# Altium footprint library ArduinoV1Pcb.PcbLib: 27 footprints (part 1 of 2)
Each footprint in its own frame and in the unit in brackets; x right, y up, seen from the top. Pads: shape width x height; smd on the part's side, far side on the other; paste and mask are expansions set on the pad; w line width, h text height; cw(c..) or ccw(c..) is an arc to the next point about the centre after c.
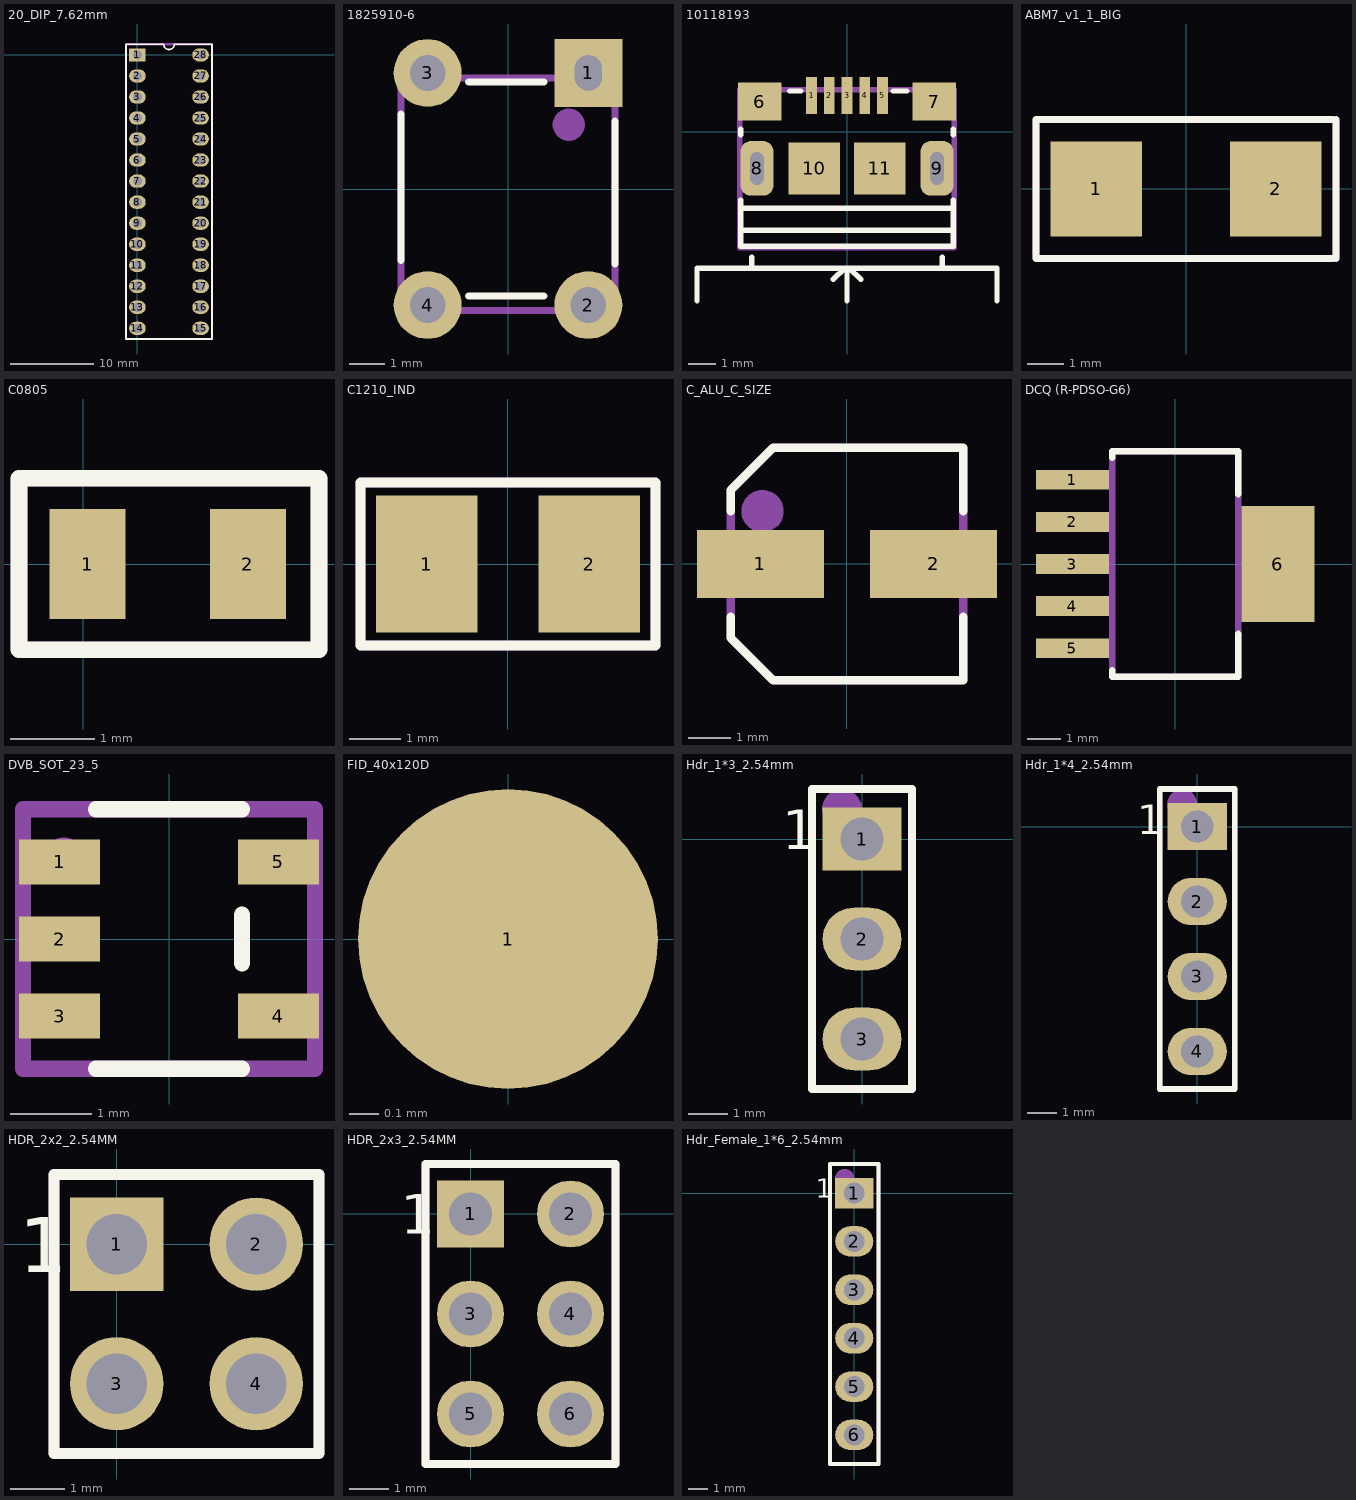
[diagram p0: the footprints below, top view; thin cyan lines are the x and y axes]

## 20_DIP_7.62mm [mm]
pads (28):
  rect 2x1.6 hole 1.1: 1(0,0)
  oval 2x1.6 hole 1.1: 2(0,-2.54) 3(0,-5.08) 4(0,-7.62) 5(0,-10.16) 6(0,-12.7) 7(0,-15.24) 8(0,-17.78) 9(0,-20.32) 10(0,-22.86) 11(0,-25.4) 12(0,-27.94) 13(0,-30.48) 14(0,-33.02) 15(7.62,-33.02) 16(7.62,-30.48) 17(7.62,-27.94) 18(7.62,-25.4) 19(7.62,-22.86) 20(7.62,-20.32) 21(7.62,-17.78) 22(7.62,-15.24) 23(7.62,-12.7) 24(7.62,-10.16) 25(7.62,-7.62) 26(7.62,-5.08) 27(7.62,-2.54) 28(7.62,0)
Top Overlay:
  lines w0.2: -1.39,-34.31 9.01,-34.31 9.01,1.29 4.445,1.29 cw(c3.81,1.29) 3.175,1.29 -1.39,1.29 -1.39,-34.31
Mechanical 29:
  circle w0.5: c0.01,-0.01 r0.224
  lines w0.254: -1.39,-34.31 9.01,-34.31 9.01,1.29 -1.39,1.29 -1.39,-34.31
  text ".Designator" at 4.61,-23.01 h3
3D body "User Library-28 pin dip-1.step": height 7.55, standoff 1.33, extent -0.127,-34.46 7.747,1.481

## 28_DIP_7.63mm_SOCKET [mm]
3D body "dil_socket.stp": height 4.2, standoff -3.17, extent -1.24,-34.26 8.86,1.24

## 1825910-6 [mm]
pads (4):
  rect 1.9x1.9 hole 1 slot 0.762 at 0 deg: 1(2.25,3.25)
  round 1.9 hole 1: 2(2.25,-3.25) 3(-2.25,3.25) 4(-2.25,-3.25)
Top Overlay:
  lines w0.2: -2.995,-1.999 -2.995,-0.974 -2.995,1.076 -2.995,2.101 ; -1.1,-3 1,-3 ; -1.1,3 1,3 ; 3,-2.1 3,1.9
Mechanical 29:
  circle w0.5: c1.7,1.8 r0.2
  lines w0.2: -3,-3.4 -3,3.2 -2.905,3.105 2.995,3.105 2.995,-3.4 -3,-3.4
  text ".Designator" at -1.7,-0.3 h1.6
3D body "User Library-FSM4JLH(1825910-5).step": height 5, standoff -3.51, extent -2.995,-3.898 2.995,3.9

## 10118193 [mm]
pads (11):
  rect 0.4x1.35 smd mask+0.05: 1(-1.3,1.338) 2(-0.65,1.338) 3(0,1.338) 4(0.65,1.338) 5(1.3,1.338)
  rect 1.6x1.4 smd: 6(-3.2,1.112)
  rect 1.6x1.4 smd mask+0.05: 7(3.2,1.112)
  rrect60% 1.2x2 hole 0.5 slot 1.2 at 90 deg mask+0.05: 8(-3.3,-1.338) 9(3.3,-1.338)
  rect 1.9x1.9 smd mask+0.05: 10(-1.2,-1.338) 11(1.2,-1.338)
Top Overlay:
  lines w0.2: -5.5,-6.2 -5.5,-5 5.5,-5 5.5,-6.2 ; -3.9,-3.6 3.9,-3.6 ; -3.9,-2.8 3.9,-2.8 ; -3.9,-2.5 -3.9,-4.2 3.9,-4.2 3.9,-2.5 ; -3.9,-0.1 -3.9,0.1 ; -3.5,-5 -3.5,-4.6 ; -2.1,1.5 -1.7,1.5 ; 0,-6.2 0,-5 ; 0.5,-5.4 0.1,-5 0,-5 ; 1.7,1.5 2.2,1.5 ; 3.5,-4.9 3.5,-4.6 ; 3.9,-0.1 3.9,0.1 ; -0.1,-5 0,-5 ; -0.1,-5 -0.5,-5.4 -0.1,-5 ; -0.1,-5 0,-5
Mechanical 29:
  lines w0.2: -3.928,-4.246 -3.928,1.538 3.928,1.538 3.928,-4.246 -3.928,-4.246
  text ".Designator" at -1.3,-1.3 h1.5
3D body "10118193-0001lfc.stp": height 2.88, standoff -0.92, extent -3.928,-4.246 3.928,1.538

## ABM7_v1_1_BIG [mm]
pads (2):
  rect 2.5x2.6 smd: 1(-2.45,0) 2(2.45,0)
Top Overlay:
  lines w0.2: 4,-1.9 -4.1,-1.9 -4.1,1.9 4,1.9 ; 4.1,-1.9 4.1,-0.95 4.1,0.95 4.1,1.9
Mechanical 29:
  lines w0.2: -4.1,-1.9 -4.1,-1.9 ; -4.1,-1.9 4.1,-1.9 4.1,1.9 -4.1,1.9 -4.1,-1.9
  text ".Designator" at -0.8,-0.2 h0.6
3D body: height 1.45, standoff 1.4, extent -1.95,-1.5 2.15,1.5
3D body: height 1.4, standoff -1.75, extent -2.9,1.9 -2.9,1.9
3D body: height 1.4, standoff -1.75, extent 2.997,-1.753 2.997,-1.753
3D body "ABM7.STEP": height 1.41, standoff 0.01, extent -2.897,-1.753 3.097,1.753

## C0805 [mm]
pads (2):
  rect 0.9x1.3 smd: 1(0.05,0) 2(1.95,0)
Top Overlay:
  lines w0.2: -0.762,-1.016 -0.762,1.016 2.794,1.016 2.794,-1.016 -0.762,-1.016
Mechanical 29:
  lines w0.2: -0.762,-1.016 -0.762,1.016 2.794,1.016 2.794,-1.016 -0.762,-1.016
  text ".Designator" at 0.05,-0.254 h0.6
3D body "CAPC2013X95N.step": height 0.96, standoff 0.01, extent 0,-0.6 2,0.6
3D body "CAPC2013X95N.step": height 0.96, standoff 0.01, extent 0,-0.6 2,0.6

## C1210_IND [mm]
pads (2):
  rect 2x2.7 smd: 1(-1.6,0) 2(1.6,0)
Top Overlay:
  lines w0.2: -2.9,-1.6 2.9,-1.6 2.9,1.6 -2.9,1.6 -2.9,-1.6
Mechanical 1:
  lines w0.2: -2.9,-1.6 -2.9,1.6 2.9,1.6 2.9,-1.6 -2.9,-1.6
  text ".Designator" at -1.4,-0.9 h1
3D body: height 2.7, standoff 0, extent -1.7,-1.25 -1.4,1.25
3D body: height 2.7, standoff 0, extent 1.35,-1.25 1.65,1.25
3D body: height 2.7, standoff 0, extent -1.4,-1.25 1.35,1.25

## C_ALU_C_SIZE [mm]
pads (2):
  rect 3x1.6 smd: 1(-2.05,0) 2(2.05,0)
Top Overlay:
  lines w0.2: -2.75,-1.25 -2.75,-1.75 -1.75,-2.75 2.75,-2.75 2.75,-1.25 ; -2.75,1.25 -2.75,1.75 -1.75,2.75 2.75,2.75 2.75,1.25
Mechanical 29:
  circle w0.5: c-2,1.25 r0.25
  lines w0.2: -2.75,-1.75 -1.75,-2.75 2.75,-2.75 2.75,2.75 -1.75,2.75 -2.75,1.75 -2.75,1.25 -2.75,-1.75
  text ".Designator" at -1.5,-0.75 h1.3
3D body "User Library-capacitor size C.step": height 5.41, standoff -0.01, extent -2.95,-2.65 2.95,2.65

## DCQ (R-PDSO-G6) [mm]
pads (6):
  rect 2.2x0.6 smd: 1(-3.1,2.54) 2(-3.1,1.27) 3(-3.1,0) 4(-3.1,-1.27) 5(-3.1,-2.54)
  rect 2.2x3.5 smd: 6(3.1,0)
Top Overlay:
  lines w0.2: -1.9,-3.2 -1.9,-3.4 1.9,-3.4 1.9,-2.1 ; -1.9,3.2 -1.9,3.4 1.9,3.4 1.9,2.1
Mechanical 29:
  lines w0.2: -1.9,-3.4 -1.9,3.4 1.9,3.4 1.9,-3.4 -1.9,-3.4
  text ".Designator" at -0.8,-0.8 h1.5
3D body "User Library-TPS73701DCQ.step": height 1.79, standoff -0.01, extent -3.63,-3.275 3.63,3.275

## DVB_SOT_23_5 [mm]
pads (5):
  rect 1x0.55 smd: 1(-1.35,0.95) 2(-1.35,0) 3(-1.35,-0.95) 4(1.35,-0.95) 5(1.35,0.95)
Top Overlay:
  lines w0.2: -0.9,-1.6 0.9,-1.6 ; -0.9,1.6 0.9,1.6 ; 0.9,-0.3 0.9,0.3
Mechanical 29:
  circle w0.5: c-1.3,1 r0
  lines w0.2: -1.8,-1.6 1.8,-1.6 1.8,1.6 -1.8,1.6 -1.8,-1.6
  text ".Designator" at -0.3,0 h0.6
3D body "User Library-TPS79333DBVR.step": height 1.61, standoff -0.01, extent -1.514,-1.525 1.513,1.525

## FID_40x120D [mil]
pads (1):
  round 40 smd paste-40 mask+40: 1(0,0)

## Hdr_1*3_2.54mm [mm]
pads (3):
  rect 2x1.6 hole 1.1: 1(0,0)
  oval 2x1.6 hole 1.1: 2(0,-2.54) 3(0,-5.08)
Top Overlay:
  lines w0.2: -1.27,-6.35 -1.27,1.27 1.27,1.27 1.27,-6.35 -1.27,-6.35
  text "1" at -2.032,-0.254 h1
Mechanical 29:
  circle w0.5: c-0.508,0.762 r0.254
  lines w0.2: -1.27,-6.35 -1.27,1.27 1.27,1.27 1.27,-6.35 0.635,-6.35 -0.635,-6.35 -1.27,-6.35
  text ".Designator" at 0.508,-3.81 h0.8
3D body "HDR_1x3_White.stp": height 8.39, standoff -3.11, extent -1.205,-6.15 1.205,1.07

## Hdr_1*4_2.54mm [mm]
pads (4):
  rect 2x1.6 hole 1.1: 1(0,0)
  oval 2x1.6 hole 1.1: 2(0,-2.54) 3(0,-5.08) 4(0,-7.62)
Top Overlay:
  lines w0.2: -1.27,-8.89 -1.27,1.27 1.27,1.27 1.27,-8.89 -1.27,-8.89
  text "1" at -2.032,-0.254 h1
Mechanical 29:
  circle w0.5: c-0.508,0.762 r0.254
  lines w0.2: -1.27,-8.89 -1.27,1.27 1.27,1.27 1.27,-8.89 0.635,-8.89 -0.635,-8.89 -1.27,-8.89
  text ".Designator" at 0.508,-3.556 h0.8
3D body "HDR_1x4_White.stp": height 8.39, standoff -3.11, extent -1.183,-8.685 1.227,1.075

## HDR_2x2_2.54MM [mm]
pads (4):
  rect 1.7x1.7 hole 1.1: 1(0,0)
  round 1.7 hole 1.1: 2(2.54,0) 3(0,-2.54) 4(2.54,-2.54)
Top Overlay:
  lines w0.2: -1.143,-3.81 -0.191,-3.81 2.222,-3.81 3.683,-3.81 3.683,1.27 -1.143,1.27 -1.143,-3.81
  text "1" at -1.778,-0.508 h1
Mechanical 29:
  circle w0.508: c-0.254,0 r0.254
  lines w0.2: -1.143,-3.81 -1.143,1.27 3.683,1.27 3.683,-3.81 -1.143,-3.81
  text ".Designator" at 1.524,-1.27 h0.6
3D body "961204-6404-XX.stp": height 8.01, standoff -3.29, extent -1.27,-3.77 3.81,1.23

## HDR_2x3_2.54MM [mm]
pads (6):
  rect 1.7x1.7 hole 1.1: 1(0,0)
  round 1.7 hole 1.1: 2(2.54,0) 3(0,-2.54) 4(2.54,-2.54) 5(0,-5.08) 6(2.54,-5.08)
Top Overlay:
  lines w0.2: -1.143,-6.35 3.683,-6.35 3.683,1.27 -1.143,1.27 -1.143,-6.35
  text "1" at -1.778,-0.508 h1
Mechanical 29:
  circle w0.508: c-0.254,0 r0.254
  lines w0.2: -1.143,-6.35 -1.143,1.27 3.683,1.27 3.683,-6.35 -1.143,-6.35
  text ".Designator" at 1.27,-3.683 h0.6
3D body "961206-6404-AR.stp": height 11.31, standoff -3.29, extent -1.23,-6.35 3.77,1.27

## Hdr_Female_1*6_2.54mm [mm]
pads (6):
  rect 2x1.6 hole 1.1: 1(0,0)
  oval 2x1.6 hole 1.1: 2(0,-2.54) 3(0,-5.08) 4(0,-7.62) 5(0,-10.16) 6(0,-12.7)
Top Overlay:
  lines w0.2: -1.27,-14.224 1.27,-14.224 1.27,1.524 -1.27,1.524 -1.27,-14.224
  text "1" at -2.032,-0.254 h1
Mechanical 29:
  circle w0.5: c-0.508,0.762 r0.254
  lines w0.2: -1.27,-14.224 -1.27,1.524 1.27,1.524 1.27,-14.224 -1.27,-14.224
  text ".Designator" at 0.254,-9.652 h0.8
3D body "m20-7820646_asm.stp": height 8.51, standoff -2.99, extent -1.25,-14.17 1.25,1.47